# Altium footprint library KEYSTONE_1070TR.PcbLib: 1 footprints
Each footprint in its own frame and in the unit in brackets; x right, y up, seen from the top. Pads: shape width x height; smd on the part's side, far side on the other; paste and mask are expansions set on the pad; w line width, h text height; cw(c..) or ccw(c..) is an arc to the next point about the centre after c.
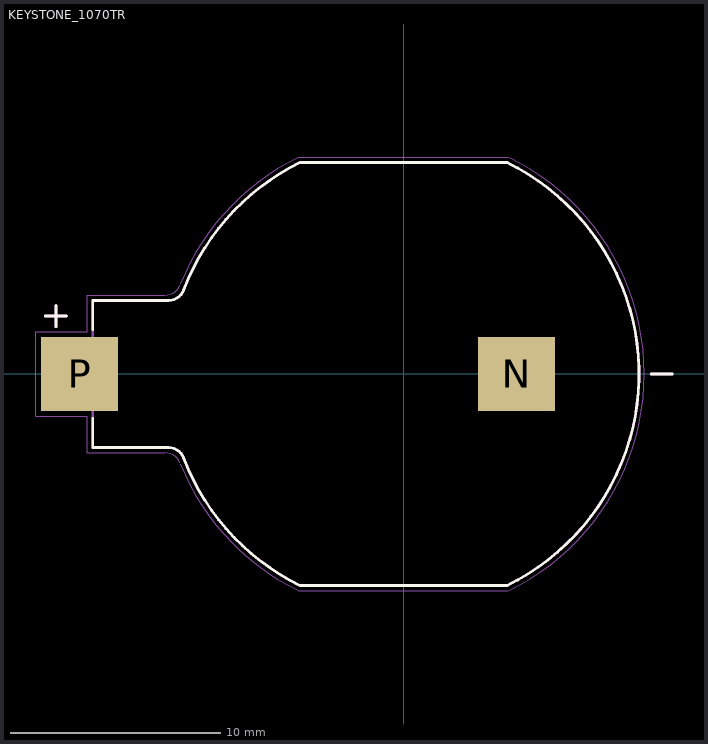
[diagram p0: the footprint, top view; thin cyan lines are the x and y axes]

## KEYSTONE_1070TR [mm]
height 5.97
pads (2):
  rect 3.65x3.51 smd: N(5.37,0) P(-15.38,0)
Top Overlay:
  lines w0.127: -17,2.75 -16,2.75 ; -16.5,2.25 -16.5,3.25 ; -14.76,-2.1 -14.76,-3.49 -11.154,-3.49 cw(c-11.154,-4.252) -10.443,-3.979 ; -14.76,2.1 -14.76,3.49 -11.154,3.49 ccw(c-11.154,4.252) -10.443,3.979 ; -10.433,-4.005 ccw(c0,0) -4.899,-10.044 ; -10.433,4.005 cw(c0,0) -4.899,10.044 ; -4.917,-10.035 4.917,-10.035 ; -4.917,10.035 4.917,10.035 ; 4.899,-10.044 ccw(c0,0) 4.899,10.044 ; 11.75,0 12.75,0
Mechanical 13:
  lines w0.127: -17,2.75 -16,2.75 ; -16.5,2.25 -16.5,3.25 ; -10.443,-3.979 ccw(c-11.154,-4.252) -11.154,-3.49 -14.76,-3.49 -14.76,3.49 -11.154,3.49 ccw(c-11.154,4.252) -10.443,3.979 ; -10.433,-4.005 ccw(c0,0) -4.899,-10.044 ; -10.433,4.005 cw(c0,0) -4.899,10.044 ; -4.917,-10.035 4.917,-10.035 ; -4.917,10.035 4.917,10.035 ; 4.899,-10.044 ccw(c0,0) 4.899,10.044 ; 11.75,0 12.75,0
Mechanical 15:
  lines w0.05: -10.618,-4.217 ccw(c-11.325,-4.502) -11.325,-3.74 -15.01,-3.74 -15.01,-2.005 -17.455,-2.005 -17.455,2.005 -15.01,2.005 -15.01,3.74 -11.325,3.74 ccw(c-11.325,4.502) -10.618,4.217 ; -10.593,-4.28 ccw(c0,0) -5.008,-10.269 ; -10.593,4.28 cw(c0,0) -5.008,10.269 ; -4.975,-10.285 4.975,-10.285 ; -4.975,10.285 4.975,10.285 ; 5.008,-10.269 ccw(c0,0) 5.008,10.269
3D body "1070TR.step": height 5.8, standoff -0.22, extent -17.226,-10.033 11.13,10.033